# Altium schematic symbol library GA3459.Schlib: 1 symbol
Pins are listed as number, name and electrical type; pins without a type are passive.

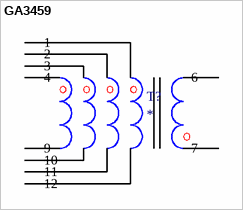
[diagram p0: symbol GA3459]

## GA3459
designator T?
Audio Transformers / Signal Transformers GA3459 for LT3751 500V 20A; Supplier 1: Mouser; Supplier Part Number 1: 994-GA3459-BL
footprint GA34XX-BL
pins: 1, 2, 3, 4, 6, 7, 9, 10, 11, 12